# EAGLE library part 690367282076 (library Wurth_Elektronik_Electromechanic_Board_to_Board_Connectors_rev16a)
WR-MM Female SMT Connector with Polarization, 20 Pins=>Code : Con_BTB_MM_Female_SMT_690367282076 <http://katalog.we-online.de/media/thumbs2/eican/thb_Con_BTB_MM_Female_SMT_69036728xx76_pf2.jpg> Details see: http://katalog.we-online.de/en/em/6903_6728_xx_76 Created 2014-06-04, Karrer Zheng 2014 (C) Würth Elektronik
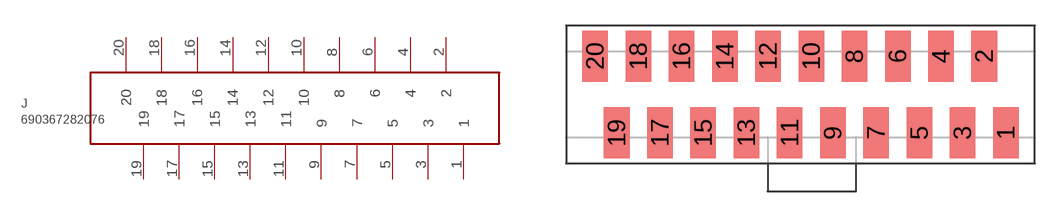
[diagram p372: symbol with the pads of 690367282076; footprint 690367282076]

Designator prefix J

## 690367282076  [690367282076]
1  1  pas
2  2  pas
3  3  pas
4  4  pas
5  5  pas
6  6  pas
7  7  pas
8  8  pas
9  9  pas
10  10  pas
11  11  pas
12  12  pas
13  13  pas
14  14  pas
15  15  pas
16  16  pas
17  17  pas
18  18  pas
19  19  pas
20  20  pas

## Footprint 690367282076 (pad centres in mm)
WR-MM Female SMT Connector with Polarization, 20 pins
smd 1.5 x 3: 1 12.7,-2.25; 2 11.43,2.25; 3 10.16,-2.25; 4 8.89,2.25; 5 7.62,-2.25; 6 6.35,2.25; 7 5.08,-2.25; 8 3.81,2.25; 9 2.54,-2.25; 10 1.27,2.25; 11 0,-2.25; 12 -1.27,2.25; 13 -2.54,-2.25; 14 -3.81,2.25; 15 -5.08,-2.25; 16 -6.35,2.25; 17 -7.62,-2.25; 18 -8.89,2.25; 19 -10.16,-2.25; 20 -11.43,2.25